# EAGLE library part NRF24L01-HEADER (library nRF24L01-header)
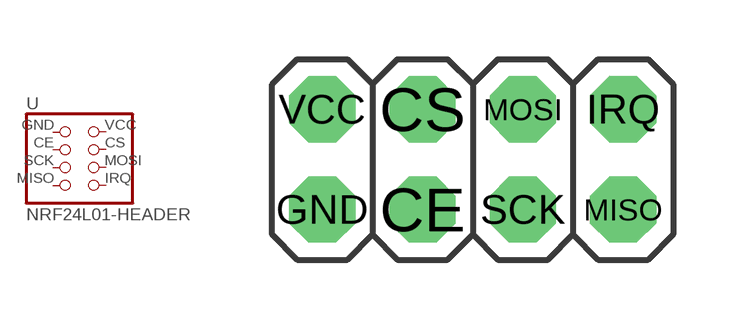
[diagram p0: symbol with the pads of NRF24L01-HEADER; footprint NRF24L01-HEADER]

Designator prefix -

## NRF24L01-HEADER  [NRF24L01-HEADER]
CE  CE  pas
CS  CS  pas
GND  GND  pas
IRQ  IRQ  pas
MISO  MISO  pas
MOSI  MOSI  pas
SCK  SCK  pas
VCC  VCC  pas

## Footprint NRF24L01-HEADER (pad centres in mm)
drill 1.016 pad 1.676 octagon: CE -1.27,-1.27; CS -1.27,1.27; GND -3.81,-1.27; IRQ 3.81,1.27; MISO 3.81,-1.27; MOSI 1.27,1.27; SCK 1.27,-1.27; VCC -3.81,1.27